# Altium integrated library Relays.IntLib: 5 symbols
Pins are listed as number, name and electrical type; pins without a type are passive.

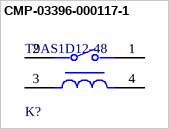
[diagram p0: symbol CMP-03396-000117-1]

## CMP-03396-000117-1
designator K?, comment T9AS1D12-48
RELAY GEN PURPOSE SPST 30A 48V; Coil Type: Non-Latching; Coil Power: 1W; Voltage Rating (AC): 277V; Approvals: UL; Relay Type: General Purpose; Coil Resistance: 2.304kR; Coil Current: 21mA; Life (Hours): 100000Hour; Operate Time: 15ms; Power Consumption: 4W; Depth: 27.43mm; Length: 32.5mm; RoHS Compliant: Yes; Height: 20.4mm; Max Operating Temperature: 85°C; Package Quantity: 50; Number of Pins: 4; Radiation Hardening: No; Termination: PCB; Contact Voltage Rating (AC): 277V; Width: 27.4mm; Current Rating: 30A; ELV: Non-Compliant; Packaging: Tray; Coil Voltage (DC): 48V; Lead Free: Lead Free; Contact Current Rating: 30A; Contact Material: Silver; Application(s): GENERAL PURPOSE; Throw Configuration: SPST; Weight: 0.918oz; Series: T9A; Release Time: 15ms; Min Operating Temperature: -55°C; Max Voltage Rating (AC): 277V; Mount: Through Hole
footprint NT90RNCS12CB
footprint CHAR-112A75C
pins: 1, 2, 3, 4


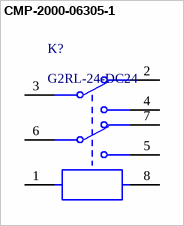
[diagram p1: symbol CMP-2000-06305-1]

## CMP-2000-06305-1
designator K?, comment G2RL-24-DC24
Low Profile Power Relay with 15.7 mm Height, Ideal for Incorporation in Miniature Equipment, 24 V, -40 to 85 degC, 8-Pin THD, RoHS, Bulk; Manufacturer: Omron; Contact Form: DPDT(2FormC); Coil Current: 16.7mA; Coil Type: Non-Latching; Contact Termination: Pin; Brand: OmronElectronics; Power Consumption: 400mW; Coil Voltage: 24V; Coil Resistance: 1.44kOhms; Product: PowerRelays; Series: G2RL-2; Length: 29mm; Factory Pack Quantity: 20; Height: 15.7mm; Mounting Technology: ThroughHole; Product Category: GeneralPurposeRelays; Datasheet URL: http://www.omron.com/ecb/products/pdf/en-g2rl.pdf; Package Description: 8-Pin Through Hole Device, Body 28.8 x 12.5 mm; Manufacturer URL: http://www.omron.com/; Type: HighCurrent; Contact Material: SilverNickel; Package Reference: G2RL-24; Datasheet Version: 03/2016; Width: 12.7mm; Mounting Style: ThroughHole; RoHS: Details
footprint OMRON-G2RL-24_V
footprint Relay_F1CA005V_Omron
pins: 1, 2, 3, 4, 5, 6, 7, 8


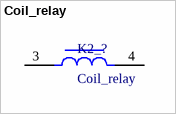
[diagram p2: symbol Coil_relay]

## Coil_relay
designator K2_?
footprint Relay_Coil
pins: 3, 4


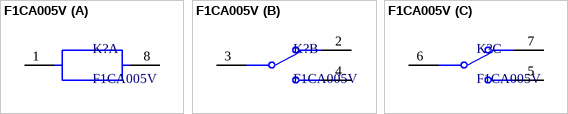
[diagram p3: symbol F1CA005V]

## F1CA005V
designator K?
footprint Relay_F1CA005V_Omron
footprint OMRON-G2RL-24_V
footprint V23079-A1001-B301
part A pins: 1, 8
part B pins: 2, 3, 4
part C pins: 5, 6, 7


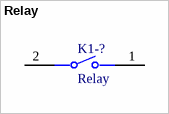
[diagram p4: symbol Relay]

## Relay
designator K1-?
footprint Relay_1000VDC_30A
pins: 1, 2